# EAGLE library part ECS- (library crystal-2)
CRYSTAL FILTERS Source: http://www.presto.co.uk
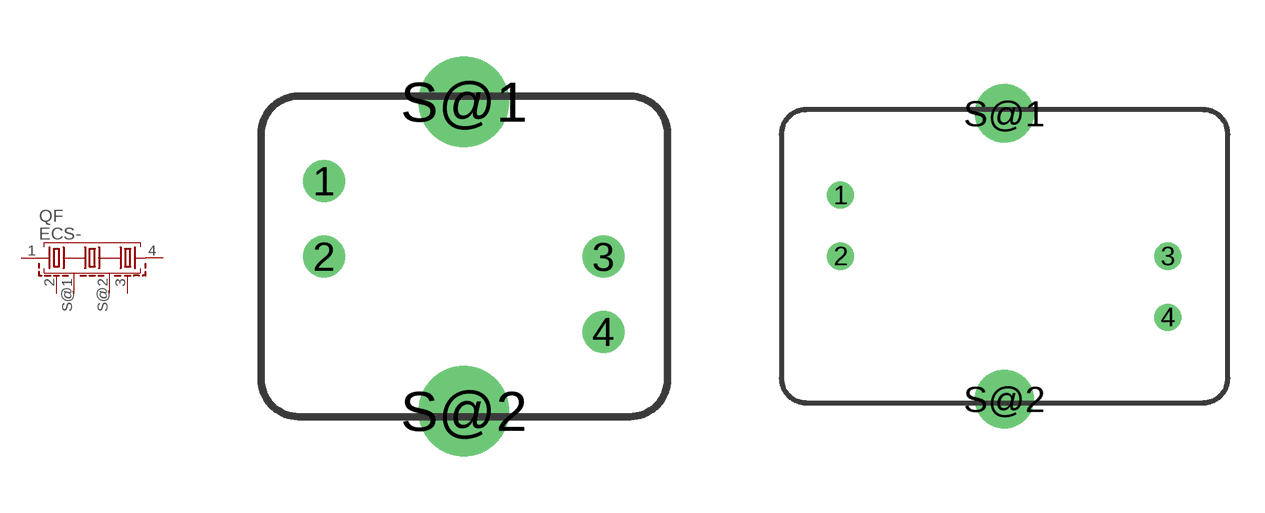
[diagram p0: symbol with the pads of SC-1; footprints SC-1, SC-4]

Designator prefix QF

## ECS-21K30D (OC_FARNELL: unknown; OC_NEWARK: unknown)  [SC-1]
1  1  pas
2  2  pas
3  3  pas
4  4  pas
S@1  S  pas
S@2  S  pas

## ECS-21K30C (OC_FARNELL: unknown; OC_NEWARK: unknown)  [SC-1]
Pads as for SC-1

## ECS-10.7-30D (OC_FARNELL: unknown; OC_NEWARK: unknown)  [SC-4]
Pads as for SC-1

## ECS-10.7-30C (OC_FARNELL: unknown; OC_NEWARK: unknown)  [SC-3]
Pads as for SC-1

## ECS-21K15E (OC_FARNELL: unknown; OC_NEWARK: unknown)  [SC-2]
Pads as for SC-1

## ECS-21K15D (OC_FARNELL: unknown; OC_NEWARK: unknown)  [SC-1]
Pads as for SC-1

## ECS-21K15C (OC_FARNELL: unknown; OC_NEWARK: unknown)  [SC-1]
Pads as for SC-1

## ECS-10.7-15E (OC_FARNELL: unknown; OC_NEWARK: unknown)  [SC-5]
Pads as for SC-1

## ECS-10.7-15D (OC_FARNELL: unknown; OC_NEWARK: unknown)  [SC-4]
Pads as for SC-1

## ECS-10.7-15C (OC_FARNELL: unknown; OC_NEWARK: unknown)  [SC-3]
Pads as for SC-1

## ECS-21K12D (OC_FARNELL: unknown; OC_NEWARK: unknown)  [SC-1]
Pads as for SC-1

## ECS-21K12C (OC_FARNELL: unknown; OC_NEWARK: unknown)  [SC-1]
Pads as for SC-1

## ECS-21K7.5E (OC_FARNELL: unknown; OC_NEWARK: unknown)  [SC-2]
Pads as for SC-1

## ECS-21K7.5D (OC_FARNELL: unknown; OC_NEWARK: unknown)  [SC-1]
Pads as for SC-1

## ECS-21K7.5C (OC_FARNELL: unknown; OC_NEWARK: unknown)  [SC-1]
Pads as for SC-1

## ECS-10.7-7.5D (OC_FARNELL: unknown; OC_NEWARK: unknown)  [SC-4]
Pads as for SC-1

## ECS-10.7-7.5C (OC_FARNELL: unknown; OC_NEWARK: unknown)  [SC-3]
Pads as for SC-1

## Footprint SC-1 (pad centres in mm)
CRYSTAL FILTERS Source: http://www.presto.co.uk
drill 0.6 pad 1.016: 1 -3.7,2; 2 -3.7,0; 3 3.7,0; 4 3.7,-2
drill 1.6 pad 1.93: S@1 0,4.1; S@2 0,-4.1

## Footprint SC-4 (pad centres in mm)
CRYSTAL FILTERS Source: http://www.presto.co.uk
drill 0.6 pad 1.016: 1 -6.7,2.5; 2 -6.7,0; 3 6.7,0; 4 6.7,-2.5
drill 1.6 pad 1.93: S@1 0,5.85; S@2 0,-5.85

## Footprint SC-3 (pad centres in mm)
CRYSTAL FILTERS Source: http://www.presto.co.uk
drill 0.6 pad 1.016: 1 -4.5,2.5; 2 -4.5,0; 3 4.5,0; 4 4.5,-2.5
drill 1.6 pad 1.93: S@1 0,5.85; S@2 0,-5.85

## Footprint SC-2 (pad centres in mm)
CRYSTAL FILTERS Source: http://www.presto.co.uk
drill 0.6 pad 1.016: 1 -4.9,2; 2 -4.9,0; 3 4.9,0; 4 4.9,-2
drill 1.6 pad 1.93: S@1 0,4.1; S@2 0,-4.1

## Footprint SC-5 (pad centres in mm)
CRYSTAL FILTERS Source: http://www.presto.co.uk
drill 0.6 pad 1.016: 1 -8.9,2.5; 2 -8.9,0; 3 8.9,0; 4 8.9,-2.5
drill 1.6 pad 1.93: S@1 0,5.85; S@2 0,-5.85